# Altium schematic symbol library ICs_ESD.SchLib: 3 symbols
Pins are listed as number, name and electrical type; pins without a type are passive.

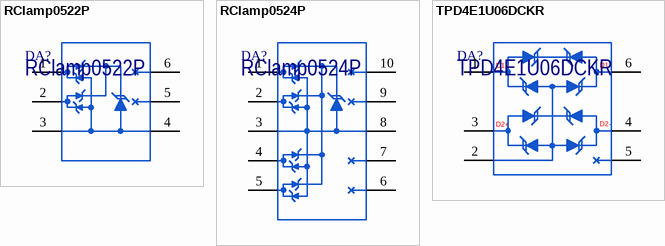
[diagram p0: symbols RClamp0522P to TPD4E1U06DCKR]

## RClamp0522P
designator DA?
Ultra Low Capacitance TVS Arrays; Manufacturer: Semtech; Marking: 0522P; ItemType: IC; ItemSubType: ESD; PartNumber: RClamp0522P; Package: SLP1610P4; Mounting: SMD
footprint SLP1610P4 (Package for RClamp0522P)
pins: 1 IO1, 2 IO2, 3 GND, 4 GND, 5 NC (hiz), 6 NC (hiz)

## RClamp0524P
designator DA?
Ultra Low Capacitance TVS Arrays; Manufacturer: Semtech; Marking: 0524P; ItemType: IC; ItemSubType: ESD; PartNumber: RClamp0524P; Package: SLP2510P8; Mounting: SMD
footprint SLP2510P8 (Package for RClamp0524P)
pins: 1 IO1, 2 IO2, 3 GND, 4 IO3, 5 IO4, 6 NC (hiz), 7 NC (hiz), 8 GND, 9 NC (hiz), 10 NC (hiz)

## TPD4E1U06DCKR
designator DA?
High-Speed ESD Protection; Manufacturer: Texas Instruments; Marking: BPx; ItemType: IC; PartNumber: TPD4E1U06DCKR; Package: SC70-6; ItemSubType: ESD; Mounting: SMD
footprint SC706_JEDEC_MO203AB (SC70, 6-Leads, Body 1.25x2.00mm, Pitch 0.65mm)
pins: 1 D1+, 2 GND (power), 3 D2+, 4 D2-, 5 NC (hiz), 6 D1-